# Altium footprint library l293d.PcbLib: 1 footprints
Each footprint in its own frame and in the unit in brackets; x right, y up, seen from the top. Pads: shape width x height; smd on the part's side, far side on the other; paste and mask are expansions set on the pad; w line width, h text height; cw(c..) or ccw(c..) is an arc to the next point about the centre after c.
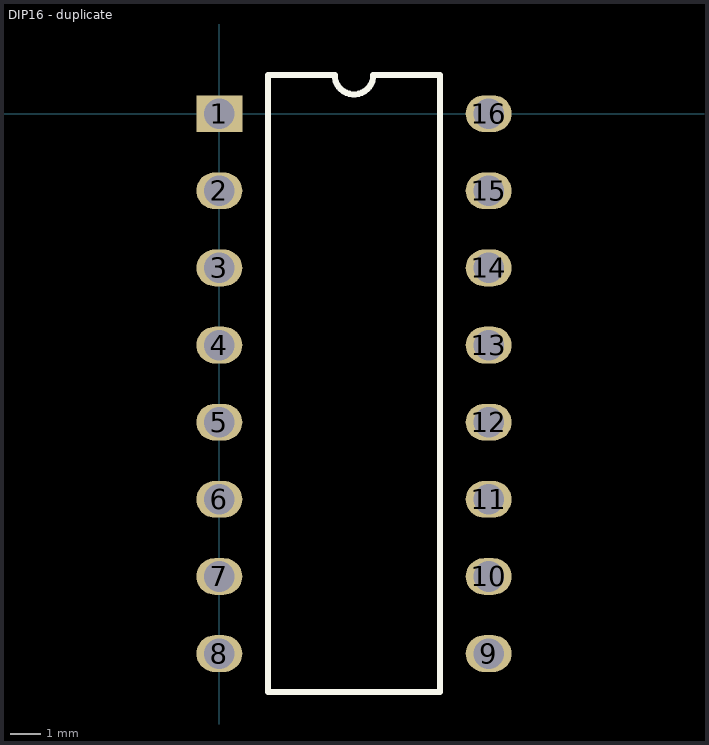
[diagram p0: the footprint, top view; thin cyan lines are the x and y axes]

## DIP16 - duplicate [mm]
pads (16):
  rect 1.5x1.2 hole 1: 1(0,0)
  oval 1.5x1.2 hole 1: 2(0,-2.52) 3(0,-5.04) 4(0,-7.56) 5(0,-10.08) 6(0,-12.6) 7(0,-15.12) 8(0,-17.64) 9(8.8,-17.64) 10(8.8,-15.12) 11(8.8,-12.6) 12(8.8,-10.08) 13(8.8,-7.56) 14(8.8,-5.04) 15(8.8,-2.52) 16(8.8,0)
Top Overlay:
  lines w0.2: 1.585,-18.9 7.215,-18.9 7.215,1.26 5.03,1.26 cw(c4.4,1.26) 3.77,1.26 1.585,1.26 1.585,-18.9
3D body "L293D--3DModel-STEP-418109.STEP": height 5.1, standoff -3.3, extent -0.127,-18.89 9.114,1.11